# EAGLE library part ITG-3200 (library Common-Parts-Library-Eagle)
Triple-Axis Digital-Output Gyroscope
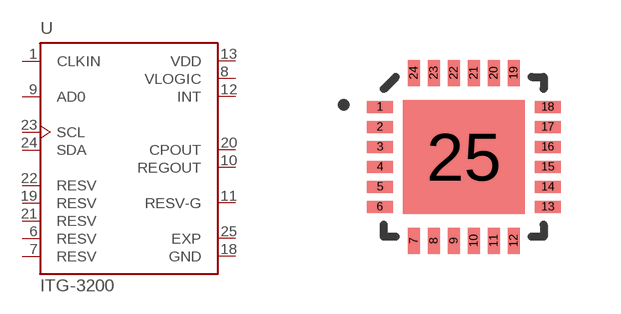
[diagram p64: symbol with the pads of ITG-3200_QFN50P400X400X95-25N; footprint ITG-3200_QFN50P400X400X95-25N]

Designator prefix U

## ITG-3200 (MANUFACTURER: InvenSense)  [ITG-3200_QFN50P400X400X95-25N]
1  CLKIN  in
6  RESV  pas
7  RESV  pas
8  VLOGIC  pwr
9  AD0  in
10  REGOUT  pas
11  RESV-G  pas
12  INT  out
13  VDD  pwr
18  GND  pwr
19  RESV  pas
20  CPOUT  pas
21  RESV  pas
22  RESV  pas
23  SCL  in
24  SDA
25  EXP  pwr

## Footprint ITG-3200_QFN50P400X400X95-25N (pad centres in mm)
smd 0.65 x 0.3: 1 -2.1,1.25; 2 -2.1,0.75; 3 -2.1,0.25; 4 -2.1,-0.25; 5 -2.1,-0.75; 6 -2.1,-1.25; 13 2.1,-1.25; 14 2.1,-0.75; 15 2.1,-0.25; 16 2.1,0.25; 17 2.1,0.75; 18 2.1,1.25
smd 0.3 x 0.65: 7 -1.25,-2.1; 8 -0.75,-2.1; 9 -0.25,-2.1; 10 0.25,-2.1; 11 0.75,-2.1; 12 1.25,-2.1; 19 1.25,2.1; 20 0.75,2.1; 21 0.25,2.1; 22 -0.25,2.1; 23 -0.75,2.1; 24 -1.25,2.1
smd 3.05 x 2.85: 25 0,0